# Altium schematic symbol library SFH4451.Schlib: 1 symbol
Pins are listed as number, name and electrical type; pins without a type are passive.

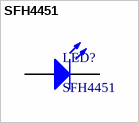
[diagram p0: symbol SFH4451]

## SFH4451
designator LED?
Infrared Emitters - High Power Mini MEDLIT 850nm, 180mW, 100mA
pins: 1 A, 2 K